# EAGLE library part 682A02 (library PCB_Piezo)
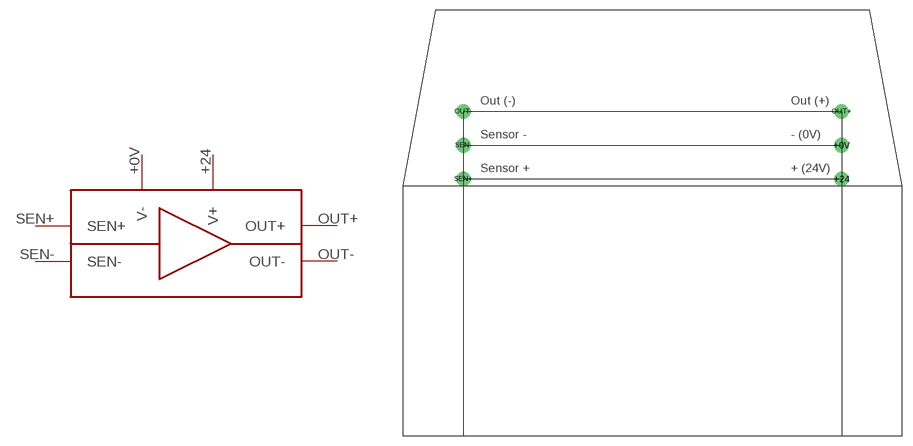
[diagram p0: symbol with the pads of 682A02; footprint 682A02]

Designator prefix -

## 682A02  [682A02]
+0V  V-
+24  V+
OUT+  OUT+
OUT-  OUT-
SEN+  SEN+
SEN-  SEN-

## Footprint 682A02 (pad centres in mm)
drill 1.2 pad 2.184: +0V 65,43; +24 65,38; OUT+ 65,48; OUT- 9,48; SEN+ 9,38; SEN- 9,43